# EAGLE library part XE216-TQ128 (library EEZ_xmos)
XMOS Multicore Microcontroller with Advanced Multi-Core RISC Architecture, Etnernet, USB, 128 pins
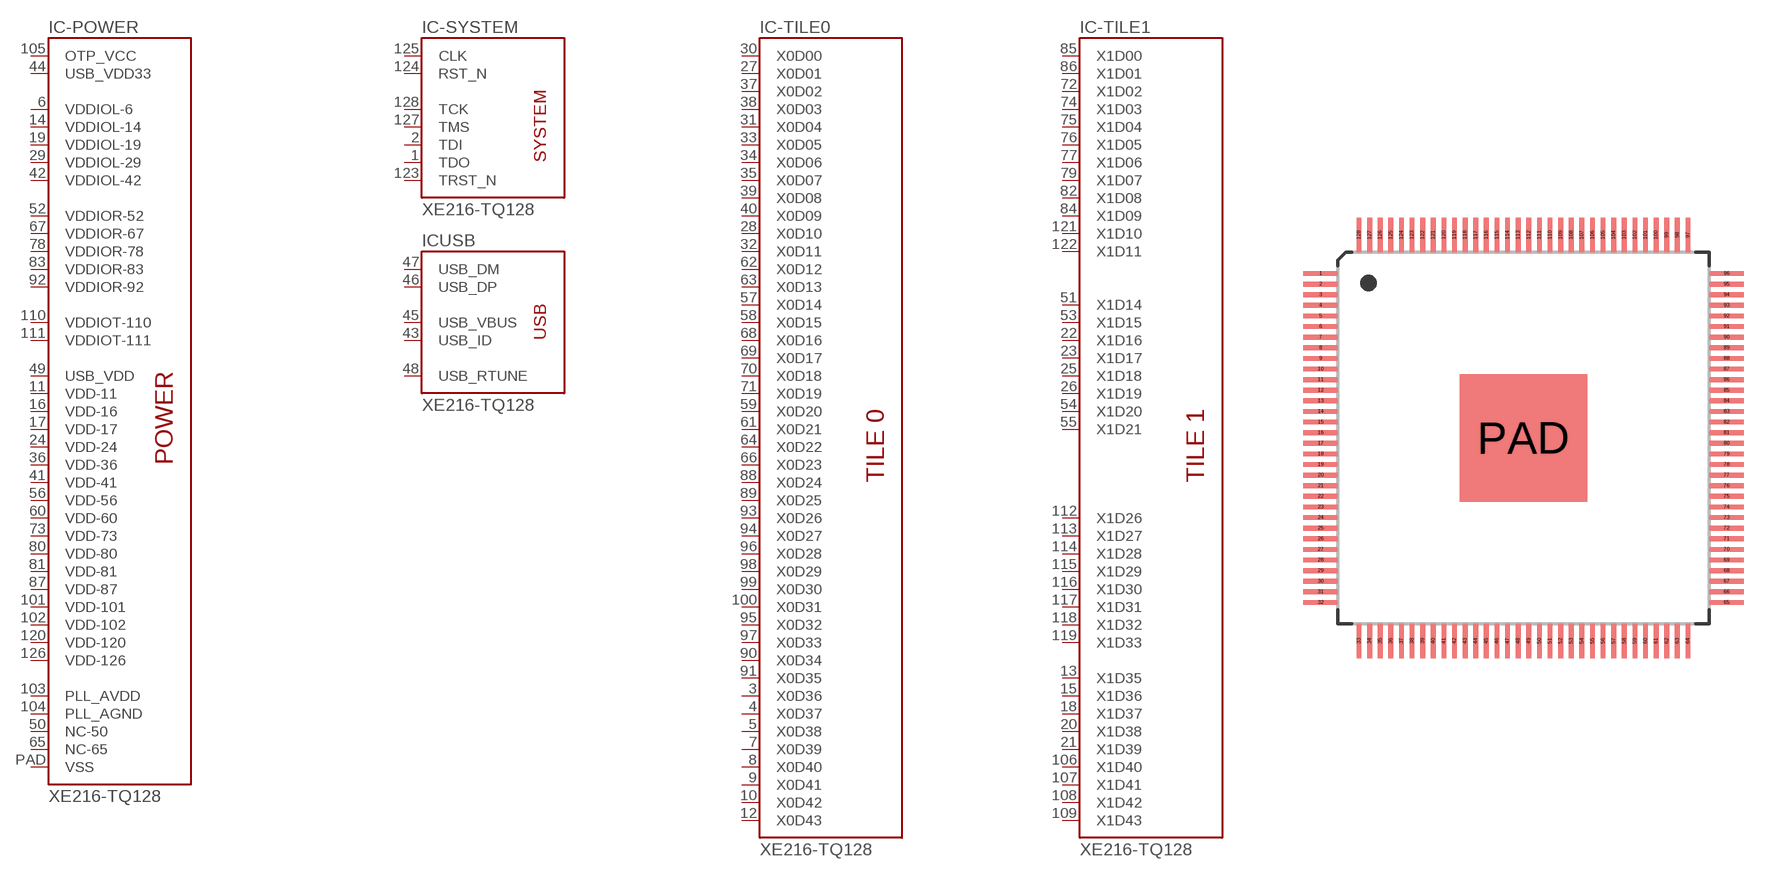
[diagram p0: symbol with the pads of TQ128; footprint TQ128]

Designator prefix IC; gates -POWER=XE216-TQ128-POWER -SYSTEM=XE216-TQ128-SYSTEM USB=XE216-TQ128-USB -TILE0=XE216-TQ128-TILE0 -TILE1=XE216-TQ128-TILE1

## XE216-TQ128  [TQ128]
1  -SYSTEM:TDO  pas
2  -SYSTEM:TDI  pas
3  -TILE0:X0D36
4  -TILE0:X0D37
5  -TILE0:X0D38
6  -POWER:VDDIOL-6  pwr
7  -TILE0:X0D39
8  -TILE0:X0D40
9  -TILE0:X0D41
10  -TILE0:X0D42
11  -POWER:VDD-11  pwr
12  -TILE0:X0D43
13  -TILE1:X1D35
14  -POWER:VDDIOL-14  pwr
15  -TILE1:X1D36
16  -POWER:VDD-16  pwr
17  -POWER:VDD-17  pwr
18  -TILE1:X1D37
19  -POWER:VDDIOL-19  pwr
20  -TILE1:X1D38
21  -TILE1:X1D39
22  -TILE1:X1D16
23  -TILE1:X1D17
24  -POWER:VDD-24  pwr
25  -TILE1:X1D18
26  -TILE1:X1D19
27  -TILE0:X0D01
28  -TILE0:X0D10
29  -POWER:VDDIOL-29  pwr
30  -TILE0:X0D00
31  -TILE0:X0D04
32  -TILE0:X0D11
33  -TILE0:X0D05
34  -TILE0:X0D06
35  -TILE0:X0D07
36  -POWER:VDD-36  pwr
37  -TILE0:X0D02
38  -TILE0:X0D03
39  -TILE0:X0D08
40  -TILE0:X0D09
41  -POWER:VDD-41  pwr
42  -POWER:VDDIOL-42  pwr
43  USB:USB_ID  pas
44  -POWER:USB_VDD33  pwr
45  USB:USB_VBUS  pas
46  USB:USB_DP  pas
47  USB:USB_DM  pas
48  USB:USB_RTUNE  pas
49  -POWER:USB_VDD  pwr
50  -POWER:NC-50  nc
51  -TILE1:X1D14
52  -POWER:VDDIOR-52  pwr
53  -TILE1:X1D15
54  -TILE1:X1D20
55  -TILE1:X1D21
56  -POWER:VDD-56  pwr
57  -TILE0:X0D14
58  -TILE0:X0D15
59  -TILE0:X0D20
60  -POWER:VDD-60  pwr
61  -TILE0:X0D21
62  -TILE0:X0D12
63  -TILE0:X0D13
64  -TILE0:X0D22
65  -POWER:NC-65  nc
66  -TILE0:X0D23
67  -POWER:VDDIOR-67  pwr
68  -TILE0:X0D16
69  -TILE0:X0D17
70  -TILE0:X0D18
71  -TILE0:X0D19
72  -TILE1:X1D02
73  -POWER:VDD-73  pwr
74  -TILE1:X1D03
75  -TILE1:X1D04
76  -TILE1:X1D05
77  -TILE1:X1D06
78  -POWER:VDDIOR-78  pwr
79  -TILE1:X1D07
80  -POWER:VDD-80  pwr
81  -POWER:VDD-81  pwr
82  -TILE1:X1D08
83  -POWER:VDDIOR-83  pwr
84  -TILE1:X1D09
85  -TILE1:X1D00
86  -TILE1:X1D01
87  -POWER:VDD-87  pwr
88  -TILE0:X0D24
89  -TILE0:X0D25
90  -TILE0:X0D34
91  -TILE0:X0D35
92  -POWER:VDDIOR-92  pwr
93  -TILE0:X0D26
94  -TILE0:X0D27
95  -TILE0:X0D32
96  -TILE0:X0D28
97  -TILE0:X0D33
98  -TILE0:X0D29
99  -TILE0:X0D30
100  -TILE0:X0D31
101  -POWER:VDD-101  pwr
102  -POWER:VDD-102  pwr
103  -POWER:PLL_AVDD  pwr
104  -POWER:PLL_AGND  pwr
105  -POWER:OTP_VCC  pwr
106  -TILE1:X1D40
107  -TILE1:X1D41
108  -TILE1:X1D42
109  -TILE1:X1D43
110  -POWER:VDDIOT-110  pwr
111  -POWER:VDDIOT-111  pwr
112  -TILE1:X1D26
113  -TILE1:X1D27
114  -TILE1:X1D28
115  -TILE1:X1D29
116  -TILE1:X1D30
117  -TILE1:X1D31
118  -TILE1:X1D32
119  -TILE1:X1D33
120  -POWER:VDD-120  pwr
121  -TILE1:X1D10
122  -TILE1:X1D11
123  -SYSTEM:TRST_N  pas
124  -SYSTEM:RST_N  pas
125  -SYSTEM:CLK  pas
126  -POWER:VDD-126  pwr
127  -SYSTEM:TMS  pas
128  -SYSTEM:TCK  pas
PAD  -POWER:VSS  pwr

## Footprint TQ128 (pad centres in mm)
smd 1.3 x 0.18: 1 -7.65,6.2; 2 -7.65,5.8; 3 -7.65,5.4; 4 -7.65,5; 5 -7.65,4.6; 6 -7.65,4.2; 7 -7.65,3.8; 8 -7.65,3.4; 9 -7.65,3; 10 -7.65,2.6; 11 -7.65,2.2; 12 -7.65,1.8; 13 -7.65,1.4; 14 -7.65,1; 15 -7.65,0.6; 16 -7.65,0.2; 17 -7.65,-0.2; 18 -7.65,-0.6; 19 -7.65,-1; 20 -7.65,-1.4; 21 -7.65,-1.8; 22 -7.65,-2.2; 23 -7.65,-2.6; 24 -7.65,-3; 25 -7.65,-3.4; 26 -7.65,-3.8; 27 -7.65,-4.2; 28 -7.65,-4.6; 29 -7.65,-5; 30 -7.65,-5.4; 31 -7.65,-5.8; 32 -7.65,-6.2; 65 7.65,-6.2; 66 7.65,-5.8; 67 7.65,-5.4; 68 7.65,-5; 69 7.65,-4.6; 70 7.65,-4.2; 71 7.65,-3.8; 72 7.65,-3.4; 73 7.65,-3; 74 7.65,-2.6; 75 7.65,-2.2; 76 7.65,-1.8; 77 7.65,-1.4; 78 7.65,-1; 79 7.65,-0.6; 80 7.65,-0.2; 81 7.65,0.2; 82 7.65,0.6; 83 7.65,1; 84 7.65,1.4; 85 7.65,1.8; 86 7.65,2.2; 87 7.65,2.6; 88 7.65,3; 89 7.65,3.4; 90 7.65,3.8; 91 7.65,4.2; 92 7.65,4.6; 93 7.65,5; 94 7.65,5.4; 95 7.65,5.8; 96 7.65,6.2
smd 0.18 x 1.3: 33 -6.2,-7.65; 34 -5.8,-7.65; 35 -5.4,-7.65; 36 -5,-7.65; 37 -4.6,-7.65; 38 -4.2,-7.65; 39 -3.8,-7.65; 40 -3.4,-7.65; 41 -3,-7.65; 42 -2.6,-7.65; 43 -2.2,-7.65; 44 -1.8,-7.65; 45 -1.4,-7.65; 46 -1,-7.65; 47 -0.6,-7.65; 48 -0.2,-7.65; 49 0.2,-7.65; 50 0.6,-7.65; 51 1,-7.65; 52 1.4,-7.65; 53 1.8,-7.65; 54 2.2,-7.65; 55 2.6,-7.65; 56 3,-7.65; 57 3.4,-7.65; 58 3.8,-7.65; 59 4.2,-7.65; 60 4.6,-7.65; 61 5,-7.65; 62 5.4,-7.65; 63 5.8,-7.65; 64 6.2,-7.65; 97 6.2,7.65; 98 5.8,7.65; 99 5.4,7.65; 100 5,7.65; 101 4.6,7.65; 102 4.2,7.65; 103 3.8,7.65; 104 3.4,7.65; 105 3,7.65; 106 2.6,7.65; 107 2.2,7.65; 108 1.8,7.65; 109 1.4,7.65; 110 1,7.65; 111 0.6,7.65; 112 0.2,7.65; 113 -0.2,7.65; 114 -0.6,7.65; 115 -1,7.65; 116 -1.4,7.65; 117 -1.8,7.65; 118 -2.2,7.65; 119 -2.6,7.65; 120 -3,7.65; 121 -3.4,7.65; 122 -3.8,7.65; 123 -4.2,7.65; 124 -4.6,7.65; 125 -5,7.65; 126 -5.4,7.65; 127 -5.8,7.65; 128 -6.2,7.65
smd 4.8 x 4.8: PAD 0,0